# Altium integrated library Fuses.IntLib: 1 symbol
Pins are listed as number, name and electrical type; pins without a type are passive.

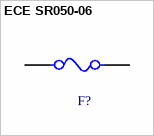
[diagram p0: symbol ECE SR050-06]

## ECE SR050-06
designator F?  (value not drawn)
FUSE PTC RESETTABLE .50A
footprint RESC2113X12N (Chip Resistor, 2-Leads, Body 2.10x1.35mm, IPC Medium Density)
pins: 1, 2